# Altium footprint library 691 243 100 0xx.PcbLib: 7 footprints
Each footprint in its own frame and in the unit in brackets; x right, y up, seen from the top. Pads: shape width x height; smd on the part's side, far side on the other; paste and mask are expansions set on the pad; w line width, h text height; cw(c..) or ccw(c..) is an arc to the next point about the centre after c.
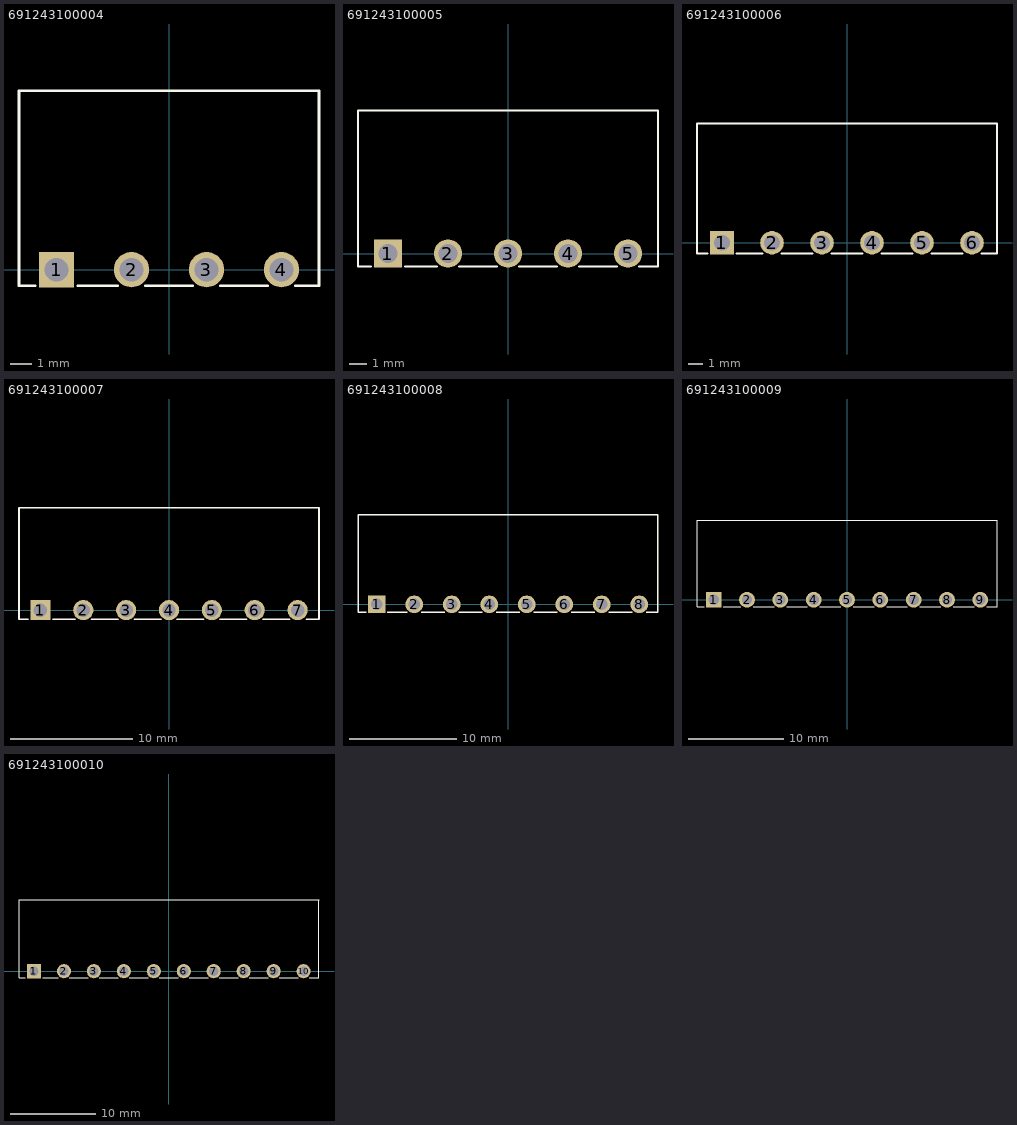
[diagram p0: the footprints below, top view; thin cyan lines are the x and y axes]

## 691243100004 [mm] "Serie 2431 - 3.50 mm _ 4 pins"
height 7.3
pads (4):
  rect 1.65x1.65 hole 1.1: 1(-5.25,0)
  round 1.65 hole 1.1: 2(-1.75,0) 3(1.75,0) 4(5.25,0)
Top Overlay:
  lines w0.127: -6.25,-0.75 -7,-0.75 -7,8.35 7,8.35 7,-0.75 5.9,-0.75 ; -4.25,-0.75 -2.4,-0.75 ; -1.1,-0.75 1.1,-0.75 ; 2.4,-0.75 4.6,-0.75

## 691243100005 [mm] "Serie 2431 - 3.50 mm _ 5 pins"
height 7.3
pads (5):
  rect 1.65x1.65 hole 1.1: 1(-7,0)
  round 1.65 hole 1.1: 2(-3.5,0) 3(0,0) 4(3.5,0) 5(7,0)
Top Overlay:
  lines w0.127: -8,-0.75 -8.75,-0.75 -8.75,8.35 8.75,8.35 8.75,-0.75 7.65,-0.75 ; -6,-0.75 -4.15,-0.75 ; -2.85,-0.75 -0.65,-0.75 ; 0.65,-0.75 2.85,-0.75 ; 4.15,-0.75 6.35,-0.75

## 691243100006 [mm] "Serie 2431 - 3.50 mm _ 6 pins"
height 7.3
pads (6):
  rect 1.65x1.65 hole 1.1: 1(-8.75,0)
  round 1.65 hole 1.1: 2(-5.25,0) 3(-1.75,0) 4(1.75,0) 5(5.25,0) 6(8.75,0)
Top Overlay:
  lines w0.127: -9.75,-0.75 -10.5,-0.75 -10.5,8.35 10.5,8.35 10.5,-0.75 9.4,-0.75 ; -7.75,-0.75 -5.9,-0.75 ; -4.6,-0.75 -2.4,-0.75 ; -1.1,-0.75 1.1,-0.75 ; 2.4,-0.75 4.6,-0.75 ; 5.9,-0.75 8.1,-0.75

## 691243100007 [mm] "Serie 2431 - 3.50 mm _ 7 pins"
height 7.3
pads (7):
  rect 1.65x1.65 hole 1.1: 1(-10.5,0)
  round 1.65 hole 1.1: 2(-7,0) 3(-3.5,0) 4(0,0) 5(3.5,0) 6(7,0) 7(10.5,0)
Top Overlay:
  lines w0.127: -11.5,-0.75 -12.25,-0.75 -12.25,8.35 12.25,8.35 12.25,-0.75 11.2,-0.75 ; -9.5,-0.75 -7.65,-0.75 ; -6.35,-0.75 -4.15,-0.75 ; -2.85,-0.75 -0.65,-0.75 ; 0.65,-0.75 2.85,-0.75 ; 4.15,-0.75 6.35,-0.75 ; 7.65,-0.75 9.85,-0.75

## 691243100008 [mm] "Serie 2431 - 3.50 mm _ 8 pins"
height 7.3
pads (8):
  rect 1.65x1.65 hole 1.1: 1(-12.25,0)
  round 1.65 hole 1.1: 2(-8.75,0) 3(-5.25,0) 4(-1.75,0) 5(1.75,0) 6(5.25,0) 7(8.75,0) 8(12.25,0)
Top Overlay:
  lines w0.127: -13.25,-0.75 -14,-0.75 -14,8.35 14,8.35 14,-0.75 12.9,-0.75 ; -11.25,-0.75 -9.4,-0.75 ; -8.1,-0.75 -5.9,-0.75 ; -4.6,-0.75 -2.4,-0.75 ; -1.1,-0.75 1.1,-0.75 ; 2.4,-0.75 4.6,-0.75 ; 5.9,-0.75 8.1,-0.75 ; 9.4,-0.75 11.6,-0.75

## 691243100009 [mm] "Serie 2431 - 3.50 mm _ 9 pins"
height 7.3
pads (9):
  rect 1.65x1.65 hole 1.1: 1(-14,0)
  round 1.65 hole 1.1: 2(-10.5,0) 3(-7,0) 4(-3.5,0) 5(0,0) 6(3.5,0) 7(7,0) 8(10.5,0) 9(14,0)
Top Overlay:
  lines w0.127: -15,-0.75 -15.75,-0.75 -15.75,8.35 15.75,8.35 15.75,-0.75 14.65,-0.75 ; -13,-0.75 -11.15,-0.75 ; -9.85,-0.75 -7.65,-0.75 ; -6.35,-0.75 -4.15,-0.75 ; -2.85,-0.75 -0.65,-0.75 ; 0.65,-0.75 2.85,-0.75 ; 4.15,-0.75 6.35,-0.75 ; 7.65,-0.75 9.85,-0.75 ; 11.15,-0.75 13.35,-0.75

## 691243100010 [mm] "Serie 2431 - 3.50 mm _ 10 pins"
height 7.3
pads (10):
  rect 1.65x1.65 hole 1.1: 1(-15.75,0)
  round 1.65 hole 1.1: 2(-12.25,0) 3(-8.75,0) 4(-5.25,0) 5(-1.75,0) 6(1.75,0) 7(5.25,0) 8(8.75,0) 9(12.25,0) 10(15.75,0)
Top Overlay:
  lines w0.127: -16.75,-0.75 -17.5,-0.75 -17.5,8.35 17.55,8.35 ; -14.75,-0.75 -12.9,-0.75 ; -11.6,-0.75 -9.4,-0.75 ; -8.1,-0.75 -5.9,-0.75 ; -4.6,-0.75 -2.4,-0.75 ; -1.1,-0.75 1.1,-0.75 ; 2.4,-0.75 4.6,-0.75 ; 5.9,-0.75 8.1,-0.75 ; 9.4,-0.75 11.6,-0.75 ; 12.9,-0.75 15.1,-0.75 ; 16.4,-0.75 17.5,-0.75 17.5,8.35